# Altium footprint library 1053121108.PcbLib: 1 footprints
Each footprint in its own frame and in the unit in brackets; x right, y up, seen from the top. Pads: shape width x height; smd on the part's side, far side on the other; paste and mask are expansions set on the pad; w line width, h text height; cw(c..) or ccw(c..) is an arc to the next point about the centre after c.
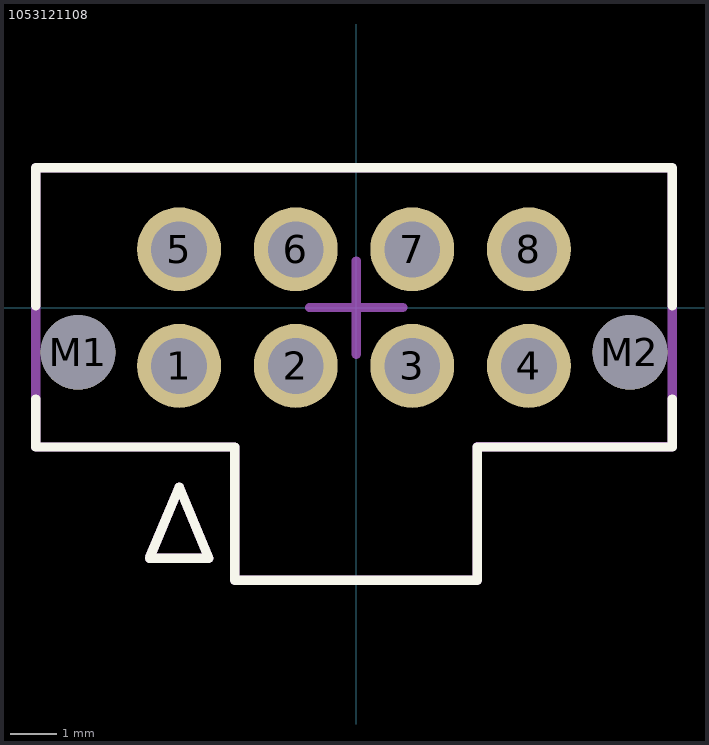
[diagram p0: the footprint, top view; thin cyan lines are the x and y axes]

## 1053121108 [mm]
pads (10):
  round 1.8 hole 1.2 paste-2539.97 mask+0.051: 1(-3.795,-1.25) 2(-1.295,-1.25) 3(1.205,-1.25) 4(3.705,-1.25) 5(-3.795,1.25) 6(-1.295,1.25) 7(1.205,1.25) 8(3.705,1.25)
  round 1.6 hole 1.6 paste-2539.97 mask+0: M1(-5.965,-0.96) M2(5.875,-0.96)
Top Overlay:
  lines w0.2: -6.87,-1.96 -6.87,-2.99 -2.6,-2.99 ; -6.87,0.04 -6.87,3 6.78,3 6.78,0.04 ; -2.6,-3 -2.6,-5.85 2.6,-5.85 2.6,-3 ; 2.6,-2.99 6.78,-2.99 6.78,-1.96 ; -4.43,-5.374 -3.16,-5.374 -3.795,-3.85 -4.43,-5.374
Top Designator:
  text ".Designator" at -6.412,-1.933 h1.52
3D Body:
  lines w0.2: -6.87,-2.99 -4.255,-2.99 -2.6,-2.99 -2.6,-5.85 2.6,-5.85 2.6,-2.985 6.78,-2.985 6.78,2.975 6.755,3 -6.87,3 -6.87,-2.99 ; -4.43,-5.374 -3.16,-5.374 -3.795,-3.85 -4.43,-5.374
Center Cross:
  lines w0.2: -1,0 0,0 ; 0,-1 0,0 ; 0,1 0,0 ; 1,0 0,0
3D body "1053121108.stp": height 9.92, standoff -3.79, extent -6.83,-5.85 6.83,2.99